# EAGLE library part UDA1361TS/N1,112 (library UDA1361TS_N1_112)
None
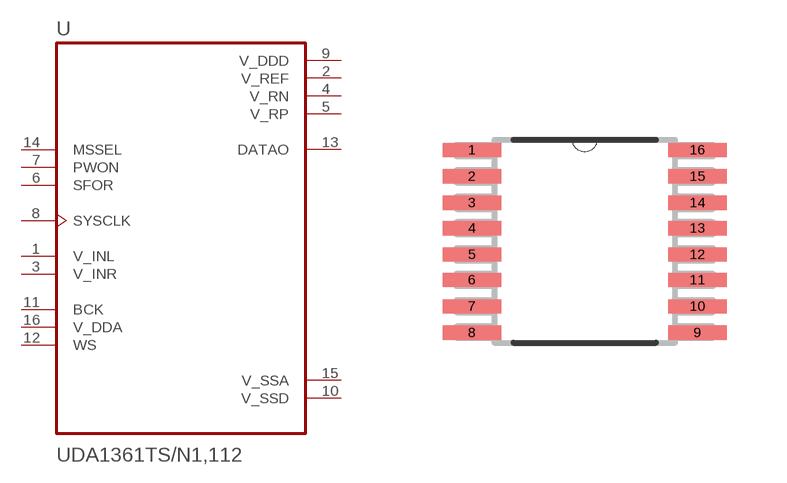
[diagram p0: symbol with the pads of SOP65P640X120-16N; footprint SOP65P640X120-16N]

Designator prefix U

## UDA1361TS/N1,112 (Availability: Good; Description: Data acquisition IC - ADC NXP Semiconductors UDA1361TS/N1, 112 24 Bit SSOP 16; MF: NXP Semiconductors; MP: UDA1361TS/N1,112; Package: SSOP-16 NXP Semiconductors; Price: 1.23 USD)  [SOP65P640X120-16N]
1  V_INL  in
2  V_REF  pwr
3  V_INR  in
4  V_RN  pwr
5  V_RP  pwr
6  SFOR  in
7  PWON  in
8  SYSCLK  in
9  V_DDD  pwr
10  V_SSD  pwr
11  BCK
12  WS
13  DATAO  out
14  MSSEL  in
15  V_SSA  pwr
16  V_DDA

## Footprint SOP65P640X120-16N (pad centres in mm)
smd 1.473 x 0.356: 1 -2.819,2.286; 2 -2.819,1.626; 3 -2.819,0.965; 4 -2.819,0.33; 5 -2.819,-0.33; 6 -2.819,-0.965; 7 -2.819,-1.626; 8 -2.819,-2.286; 9 2.819,-2.286; 10 2.819,-1.626; 11 2.819,-0.965; 12 2.819,-0.33; 13 2.819,0.33; 14 2.819,0.965; 15 2.819,1.626; 16 2.819,2.286